# Altium schematic symbol library Ethernet.SchLib: 2 symbols
Pins are listed as number, name and electrical type; pins without a type are passive.

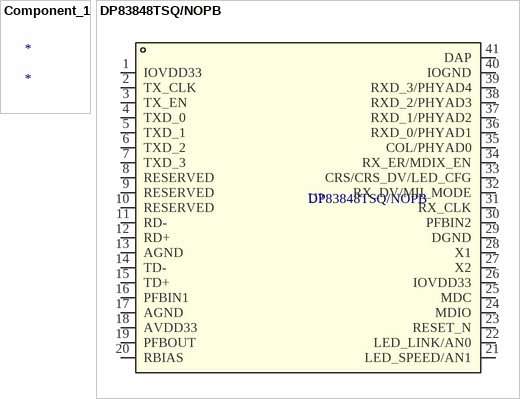
[diagram p0: symbols Component_1 to DP83848TSQ/NOPB]

## Component_1
designator *

## DP83848TSQ/NOPB
designator U?
类型:以太网收发器;端口数量:1;MAC接口:MII；RMII;; Manufacturer: TI(德州仪器); SEEX_AUTHOR: ref42; SEEX_COMPONENT_ID: C92110; Data Rate: 10Mbit/s；100Mbit/s; Ethernet Speed Standards: 10BASE-T；100BASE-TX; Number of ports: 1; Voltage - Supply: 3.3V; SEEX_PROJECT_URL: https://github.com/ref42/seex; Footprint: WQFN-40_L6.0-W6.0-P0.50-BL-EP; Datasheet: https://www.ti.com/cn/lit/ds/symlink/dp83848t.pdf; Features: 可编程LED指示; JLCPCB Part Class: Extended Part; LCSC Part Name: DP83848x PHYTER Mini / LS Single Port 10/100 Mb/s 以太网收发器; MAC Interface: MII；RMII; Manufacturer Part: DP83848TSQ/NOPB; Operating Temperature: -40℃~+125℃; Supplier: LCSC; Supplier Footprint: WQFN-40-EP(6x6); Supplier Part: C92110; Type: 以太网收发器
footprint WQFN-40_L6.0-W6.0-P0.50-BL-EP (WQFN-40-EP(6x6); QFN-40-EP(6x6); QFN-40(6x6))
pins: 1 IOVDD33, 2 TX_CLK, 3 TX_EN, 4 TXD_0, 5 TXD_1, 6 TXD_2, 7 TXD_3, 8 RESERVED, 9 RESERVED, 10 RESERVED, 11 RD-, 12 RD+, 13 AGND, 14 TD-, 15 TD+, 16 PFBIN1, 17 AGND, 18 AVDD33, 19 PFBOUT, 20 RBIAS, 21 LED_SPEED/AN1, 22 LED_LINK/AN0, 23 RESET_N, 24 MDIO, 25 MDC, 26 IOVDD33, 27 X2, 28 X1, 29 DGND, 30 PFBIN2, 31 RX_CLK, 32 RX_DV/MII_MODE, 33 CRS/CRS_DV/LED_CFG, 34 RX_ER/MDIX_EN, 35 COL/PHYAD0, 36 RXD_0/PHYAD1, 37 RXD_1/PHYAD2, 38 RXD_2/PHYAD3, 39 RXD_3/PHYAD4, 40 IOGND, 41 DAP